# Altium schematic symbol library C0805C105J4RACTM.SchLib: 1 symbol
Pins are listed as number, name and electrical type; pins without a type are passive.

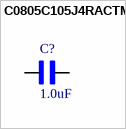
[diagram p0: symbol C0805C105J4RACTM]

## C0805C105J4RACTM
designator C?, comment 1.0uF
Cap Ceramic 1uF 16V X7R 5% SMD 0805 125C Plastic T/R; MF: KEMET; MP: C0805C105J4RACTM; Availability: Warning; Package: 0805 KEMET; Price: None; Mouser-Purchase-URL: https://snapeda.com/shop?store=Mouser&id=1776791; SnapEDA_Link: https://www.snapeda.com/parts/C0805C105J4RACTM/KEMET/view-part/1776791/?ref=snap; Value: *
footprint C0805C105J4RACTM
pins: 1, 2